# Altium footprint library ShortableLinks.PcbLib: 3 footprints
Each footprint in its own frame and in the unit in brackets; x right, y up, seen from the top. Pads: shape width x height; smd on the part's side, far side on the other; paste and mask are expansions set on the pad; w line width, h text height; cw(c..) or ccw(c..) is an arc to the next point about the centre after c.
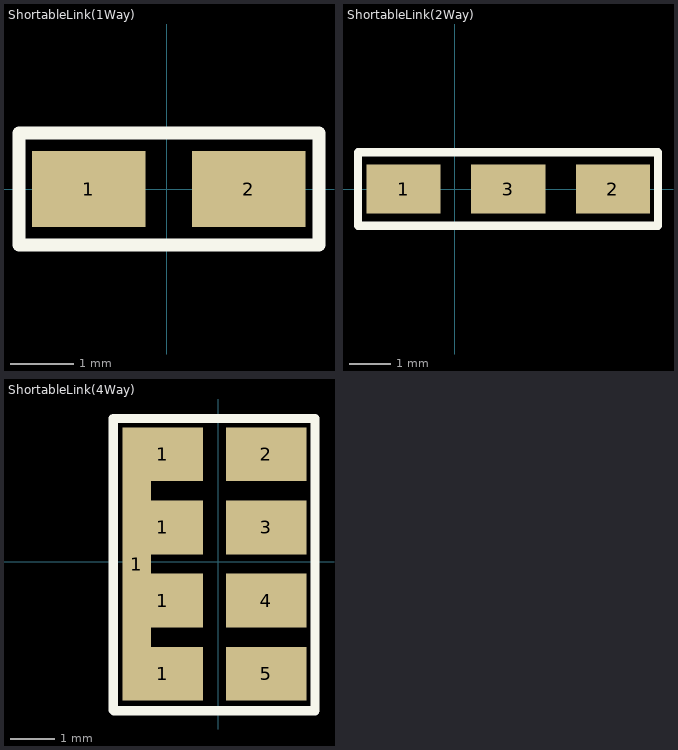
[diagram p0: the footprints below, top view; thin cyan lines are the x and y axes]

## ShortableLink(1Way) [mm]
pads (2):
  rect 1.8x1.2 smd: 1(-1.245,0) 2(1.295,0)
Top Overlay:
  lines w0.203: -2.349,-0.889 -2.349,0 -2.349,0.889 2.413,0.889 2.413,-0.889 -2.349,-0.889

## ShortableLink(2Way) [mm]
pads (3):
  rect 1.8x1.2 smd: 1(-1.245,0) 2(3.835,0) 3(1.295,0)
Top Overlay:
  lines w0.203: -2.349,-0.889 4.928,-0.889 4.928,0.889 -2.349,0.889 -2.349,0 -2.349,-0.889

## ShortableLink(4Way) [mm]
pads (9):
  rect 0.635x5.08 smd mask+0: 1(-1.829,-0.051)
  rect 1.8x1.2 smd: 1(-1.245,-2.5) 1(-1.245,-0.867) 1(-1.245,0.766) 2(1.067,2.4) 3(1.067,0.767) 4(1.067,-0.867) 5(1.067,-2.5)
  rect 1.8x1.2 smd mask+0.102: 1(-1.245,2.4)
Top Overlay:
  lines w0.203: -2.349,-3.315 -2.349,0 -2.349,3.2 2.159,3.2 2.159,-3.327 -2.337,-3.327 -2.349,-3.315